# Altium schematic symbol library LED_RGB_6PLCC.SchLib: 1 symbol
Pins are listed as number, name and electrical type; pins without a type are passive.

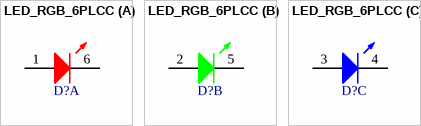
[diagram p0: symbol LED_RGB_6PLCC]

## LED_RGB_6PLCC
designator D?, comment RGB  (value not drawn)
LED RGB
part A pins: 1 A, 6 K
part B pins: 2 A, 5 K
part C pins: 3 A, 4 K